# EAGLE library part 202-MD-08GK (library futaba-vfd)
Futaba 2x20 alphanumeric display.
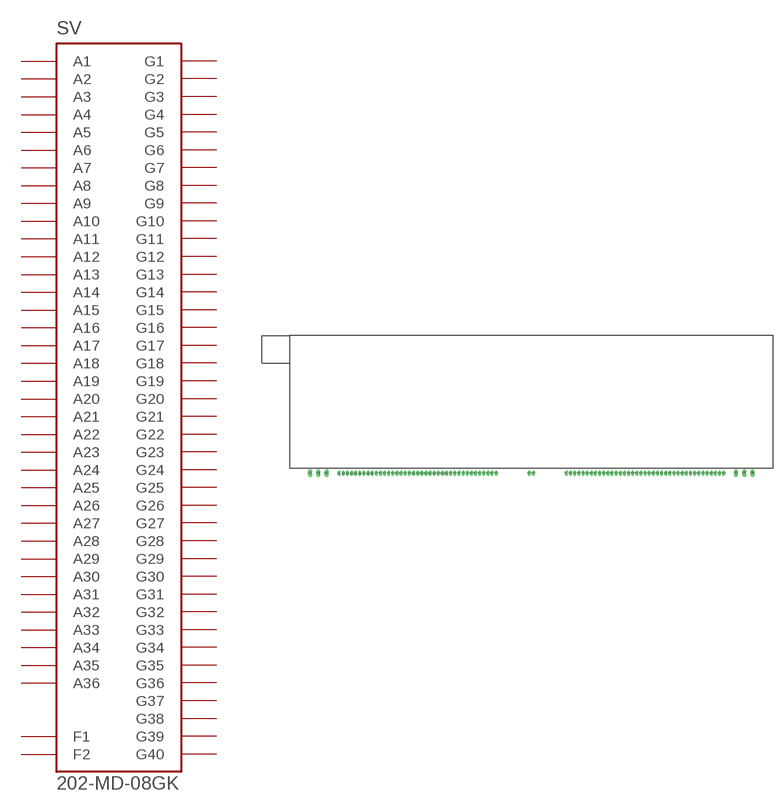
[diagram p0: symbol with the pads of VFD1; footprint VFD1]

Designator prefix SV

## 202-MD-08GK  [VFD1]
A1  A1  in
A2  A2  in
A3  A3  in
A4  A4  in
A5  A5  in
A6  A6  in
A7  A7  in
A8  A8  in
A9  A9  in
A10  A10  in
A11  A11  in
A12  A12  in
A13  A13  in
A14  A14  in
A15  A15  in
A16  A16  in
A17  A17  in
A18  A18  in
A19  A19  in
A20  A20  in
A21  A21  in
A22  A22  in
A23  A23  in
A24  A24  in
A25  A25  in
A26  A26  in
A27  A27  in
A28  A28  in
A29  A29  in
A30  A30  in
A31  A31  in
A32  A32  in
A33  A33  in
A34  A34  in
A35  A35  in
A36  A36  in
FA1  F1  pwr
FA2  F1  pwr
FA3  F1  pwr
FB1  F2  pwr
FB2  F2  pwr
FB3  F2  pwr
G1  G1  in
G2  G2  in
G3  G3  in
G4  G4  in
G5  G5  in
G6  G6  in
G7  G7  in
G8  G8  in
G9  G9  in
G10  G10  in
G11  G11  in
G12  G12  in
G13  G13  in
G14  G14  in
G15  G15  in
G16  G16  in
G17  G17  in
G18  G18  in
G19  G19  in
G20  G20  in
G21  G21  in
G22  G22  in
G23  G23  in
G24  G24  in
G25  G25  in
G26  G26  in
G27  G27  in
G28  G28  in
G29  G29  in
G30  G30  in
G31  G31  in
G32  G32  in
G33  G33  in
G34  G34  in
G35  G35  in
G36  G36  in
G37  G37  in
G38  G38  in
G39  G39  in
G40  G40  in

## Footprint VFD1 (pad centres in mm)
drill 0.6 long: A1 18,-2; A2 19.5,-2; A3 21,-2; A4 22.5,-2; A5 24,-2; A6 25.5,-2; A7 27,-2; A8 28.5,-2; A9 30,-2; A10 31.5,-2; A11 33,-2; A12 34.5,-2; A13 36,-2; A14 37.5,-2; A15 39,-2; A16 40.5,-2; A17 42,-2; A18 43.5,-2; A19 132,-2; A20 133.5,-2; A21 135,-2; A22 136.5,-2; A23 138,-2; A24 139.5,-2; A25 141,-2; A26 142.5,-2; A27 144,-2; A28 145.5,-2; A29 147,-2; A30 148.5,-2; A31 150,-2; A32 151.5,-2; A33 153,-2; A34 154.5,-2; A35 156,-2; A36 157.5,-2; G1 45,-2; G2 46.5,-2; G3 48,-2; G4 49.5,-2; G5 51,-2; G6 52.5,-2; G7 54,-2; G8 55.5,-2; G9 57,-2; G10 58.5,-2; G11 60,-2; G12 61.5,-2; G13 63,-2; G14 64.5,-2; G15 66,-2; G16 67.5,-2; G17 69,-2; G18 70.5,-2; G19 72,-2; G20 73.5,-2; G21 102,-2; G22 103.5,-2; G23 105,-2; G24 106.5,-2; G25 108,-2; G26 109.5,-2; G27 111,-2; G28 112.5,-2; G29 114,-2; G30 115.5,-2; G31 117,-2; G32 118.5,-2; G33 120,-2; G34 121.5,-2; G35 123,-2; G36 124.5,-2; G37 126,-2; G38 127.5,-2; G39 129,-2; G40 130.5,-2; NC1 75,-2; NC2 87,-2; NC3 88.5,-2; NC4 100.5,-2
drill 0.9 long: FA1 7.5,-2; FA2 10.5,-2; FA3 13.5,-2; FB1 162,-2; FB2 165,-2; FB3 168,-2